# Altium schematic symbol library DRV8871DDAR.SchLib: 1 symbol
Pins are listed as number, name and electrical type; pins without a type are passive.

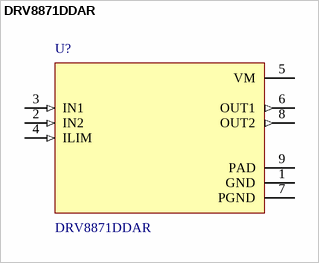
[diagram p0: symbol DRV8871DDAR]

## DRV8871DDAR
designator U?
Unipolar Motor Driver NMOS PWM 8-SO PowerPad; MF: Texas Instruments; Digi-Key_Part_Number: 296-43024-1-ND; Digi-Key_Purchase_URL: https://www.digikey.com/product-detail/en/texas-instruments/DRV8871DDAR/296-43024-1-ND/5722182?utm_source=snapeda&utm_medium=aggregator&utm_campaign=symbol; MP: DRV8871DDAR; Package: SO-8 Texas Instruments; SnapEDA_Link: https://www.snapeda.com/parts/DRV8871DDAR/Texas%20Instruments/view-part/492651/?ref=snap; Value: *
footprint *SOIC127P600X170-8N
pins: 1 GND (power), 2 IN2 (in), 3 IN1 (in), 4 ILIM (in), 5 VM (power), 6 OUT1 (out), 7 PGND (power), 8 OUT2 (out), 9 PAD (power)